# Altium footprint library 下板20130801.PcbLib: 47 footprints (part 3 of 3)
Each footprint in its own frame and in the unit in brackets; x right, y up, seen from the top. Pads: shape width x height; smd on the part's side, far side on the other; paste and mask are expansions set on the pad; w line width, h text height; cw(c..) or ccw(c..) is an arc to the next point about the centre after c.
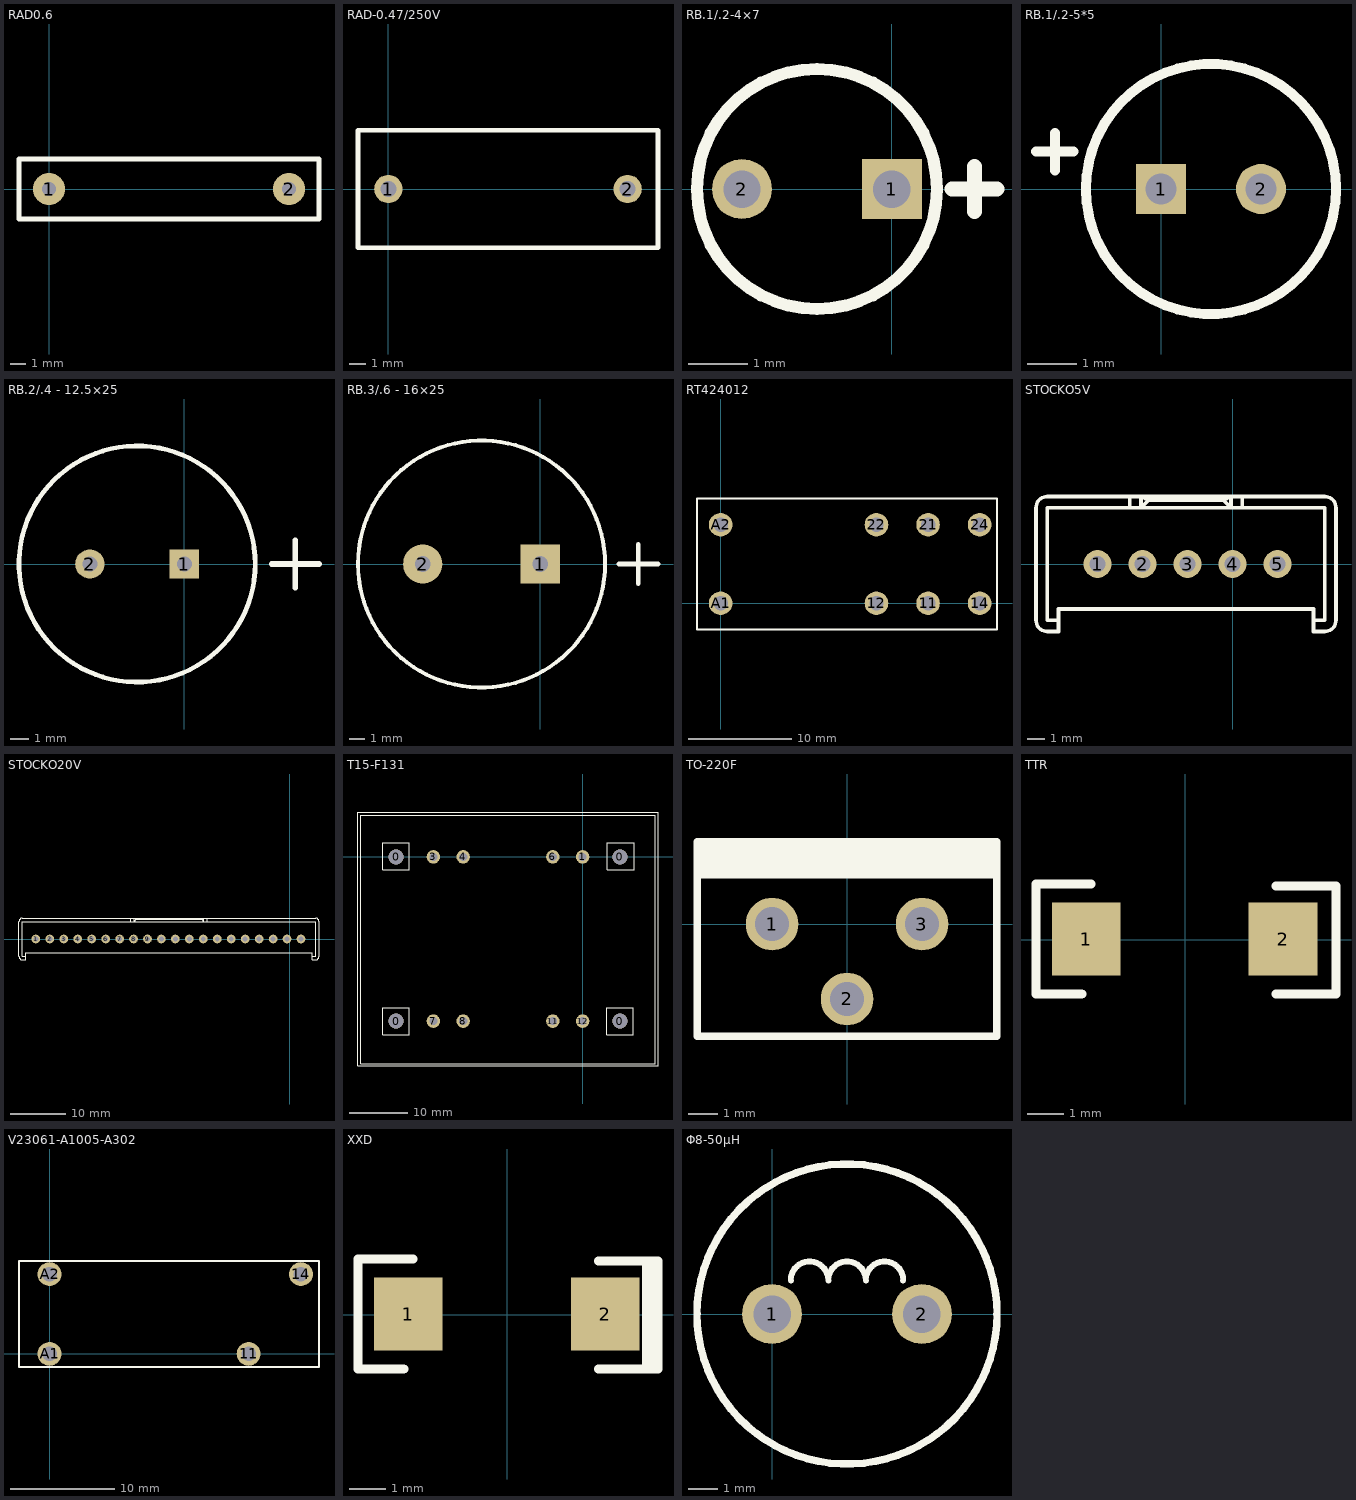
[diagram p2: the footprints below, top view; thin cyan lines are the x and y axes]

## RAD0.6 [mil]
pads (2):
  round 80 hole 35: 1(0,0) 2(600,0)
Top Overlay:
  lines w12: -75,-75 -75,75 675,75 675,-75 -75,-75

## RAD-0.47/250V [mil]
pads (2):
  round 70 hole 40: 1(0,0) 2(590,0)
Top Overlay:
  lines w12: -75,-145 665,-145 665,145 -75,145 -75,-145

## RB.1/.2-4×7 [mil]
pads (2):
  rect 40x40 hole 25: 1(0,0)
  round 40 hole 25: 2(-100,0)
Top Overlay:
  circle w8: c-50,0 r80
  lines w10: 40,0 70,0 ; 55,-15 55,15

## RB.1/.2-5*5 [mil]
pads (2):
  rect 40x40 hole 25: 1(0,0)
  round 40 hole 25: 2(80,0)
Top Overlay:
  circle w8: c40,0 r100
  lines w8: -100,30 -70,30 ; -85,15 -85,45

## RB.2/.4 - 12.5×25 [mil]
pads (2):
  rect 62x62 hole 32: 1(0,0)
  round 62 hole 32: 2(-200,0)
Top Overlay:
  circle w10: c-100,0 r250
  lines w12: 185,0 285,0 ; 235,-50 235,50

## RB.3/.6 - 16×25 [mil]
pads (2):
  rect 100x100 hole 40: 1(0,0)
  round 100 hole 40: 2(-300,0)
Top Overlay:
  circle w10: c-150,0 r314.96
  lines w12: 200,0 300,0 ; 250,-50 250,50

## RT424012 [mil]
pads (8):
  round 90 hole 55: 11(791.85,0) 12(595,0) 14(988.7,0) 21(791.85,300) 22(595,300) 24(988.7,300) A1(0,0) A2(0,300)
Top Overlay:
  lines w8: -90,-100 -90,400 1055,400 1055,-100 -90,-100

## STOCKO5V [mil]
pads (5):
  round 62 hole 35: 1(-300,0) 2(-200,0) 3(-100,0) 4(0,0) 5(100,0)
Top Overlay:
  lines w7.87: -386.67,-125 -411.67,-125 -411.67,125 205,125 205,-125 180,-125 ; -228.33,125 -228.33,150 ; 21.67,125 21.67,150 ; -186.67,141.67 -203.33,125 -203.33,150 -186.67,141.67 ; -186.67,141.67 -20,141.67 ; -20,141.67 -3.33,125 -3.33,150 -20,141.67 ; -436.67,-125 ccw(c-411.67,-125) -411.67,-150 -386.67,-150 -386.67,-100 180,-100 180,-150 205,-150 ccw(c205,-125) 230,-125 230,125 ccw(c205,125) 205,150 -411.67,150 ccw(c-411.67,125) -436.67,125 -436.67,-125

## STOCKO20V [mil]
pads (20):
  round 62 hole 35: 1(-1820,0) 2(-1720,0) 3(-1620,0) 4(-1520,0) 5(-1420,0) 6(-1320,0) 7(-1220,0) 8(-1120,0) 9(-1020,0) 10(-920,0) 11(-820,0) 12(-720,0) 13(-620,0) 14(-520,0) 15(-420,0) 16(-320,0) 17(-220,0) 18(-120,0) 19(-20,0) 20(80,0)
Top Overlay:
  lines w7.87: -1890.83,-125 -1915.83,-125 -1915.83,125 -1907.5,125 184.17,125 184.17,-125 159.17,-125 ; -1140.83,125 -1140.83,150 ; -590.83,125 -590.83,150 ; -1099.17,141.67 -1115.83,125 -1115.83,150 -1099.17,141.67 ; -1099.17,141.67 -632.5,141.67 ; -632.5,141.67 -615.83,125 -615.83,150 -632.5,141.67 ; -1940.83,-125 ccw(c-1915.83,-125) -1915.83,-150 -1890.83,-150 -1890.83,-100 159.17,-100 159.17,-150 184.17,-150 ccw(c184.17,-125) 209.17,-125 209.17,125 ccw(c184.17,125) 184.17,150 -1915.83,150 ccw(c-1915.83,125) -1940.83,125 -1940.83,-125

## T15-F131 [mil]
pads (12):
  round 100 hole 100 unplated: 0(-1250,-1100) 0(-1250,0) 0(250,-1100) 0(250,0)
  round 90 hole 55: 1(0,0) 3(-1000,0) 4(-800,0) 6(-200,0) 7(-1000,-1100) 8(-800,-1100) 11(-200,-1100) 12(0,-1100)
Top Overlay:
  lines w8: -1505,-1400 -1505,300 505,300 505,-1400 -1505,-1400 ; -1485,-1385 485,-1385 485,280 -1485,280 -1485,-1385 ; -1340,-1190 -1160,-1190 -1160,-1010 -1340,-1010 -1340,-1190 ; -1340,-85 -1160,-85 -1160,95 -1340,95 -1340,-85 ; 160,-1190 340,-1190 340,-1010 160,-1010 160,-1190 ; 165,-85 345,-85 345,95 165,95 165,-85

## TO-220F [mil]
pads (3):
  round 70 hole 45: 1(-100,0) 2(0,-100) 3(100,0)
Top Overlay:
  rectangle: -200,65 200,110
  lines w8: -200,65 200,65
  lines w10: -200,-150 200,-150 200,110 -200,110 -200,-150

## TTR [mil]
pads (2):
  rect 75x80 smd: 1(-107.94,0.6) 2(107.07,0.6)
Top Overlay:
  lines w10: -162.93,-59.4 -112.93,-59.4 ; -162.93,-57.4 -162.93,58.6 ; -162.93,60.6 -102.93,60.6 ; 99.57,-59.4 165,-59.4 165,58.6 99.57,58.6

## V23061-A1005-A302 [mil]
pads (4):
  round 90 hole 55: 11(750,0) 14(946.85,300) A1(0,0) A2(0,300)
Top Overlay:
  lines w8: -115,-50 1015,-50 1015,350 -115,350 -115,-50

## XXD [mil]
pads (2):
  rect 75x80 smd: 1(-107.94,0.6) 2(107.07,0.6)
Top Overlay:
  lines w10: -162.93,-59.4 -112.93,-59.4 ; -162.93,-57.4 -162.93,58.6 ; -162.93,60.6 -102.93,60.6 ; 99.57,-59.4 164.56,-59.4 ; 99.57,58.6 164.56,58.6 164.56,-57.4 ; 152.07,-57.4 152.07,58.6 ; 157.06,-57.4 157.06,58.6

## Φ8-50μH [mil]
pads (2):
  round 80 hole 50: 1(0,0) 2(200,0)
Top Overlay:
  circle w10: c100,0 r200
  lines w8: 25,45 cw(c50,45) 75,45 cw(c100,45) 125,45 cw(c150,45) 175,45